# EAGLE library part NJR4265 (library jrc)
NJR4265 Ultra-compact, integrated antenna and signal processing circuit built-in Short-range mobile detection 24GHz band microwave sensor module Source: https://mc.njr.co.jp/pdf/Datasheet_NJR4265J1_Rev00.pdf
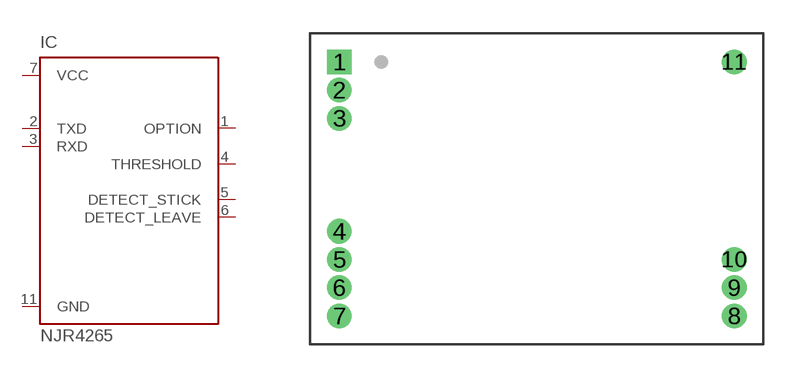
[diagram p0: symbol with the pads of NJR4265; footprint NJR4265]

Designator prefix IC

## NJR4265  [NJR4265]
1  OPTION  in
2  TXD  out
3  RXD  in
4  THRESHOLD  in
5  DETECT_STICK  out
6  DETECT_LEAVE
7  VCC  pwr
11  GND  pwr

## Footprint NJR4265 (pad centres in mm)
NJR4265 Package
drill 0.6 square: 1 -8.88,5.715
drill 0.6: 2 -8.88,4.445; 3 -8.88,3.175; 4 -8.88,-1.905; 5 -8.88,-3.175; 6 -8.88,-4.445; 7 -8.88,-5.715; 8 8.9,-5.715; 9 8.9,-4.445; 10 8.9,-3.175; 11 8.9,5.715